# Altium schematic symbol library LED_SK9822.SchLib: 1 symbol
Pins are listed as number, name and electrical type; pins without a type are passive.

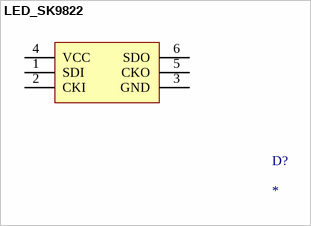
[diagram p0: symbol LED_SK9822]

## LED_SK9822
designator D?
pins: 1 SDI, 2 CKI, 3 GND, 4 VCC, 5 CKO, 6 SDO